# Altium footprint library PCB11.PcbLib: 40 footprints (part 2 of 3)
Each footprint in its own frame and in the unit in brackets; x right, y up, seen from the top. Pads: shape width x height; smd on the part's side, far side on the other; paste and mask are expansions set on the pad; w line width, h text height; cw(c..) or ccw(c..) is an arc to the next point about the centre after c.
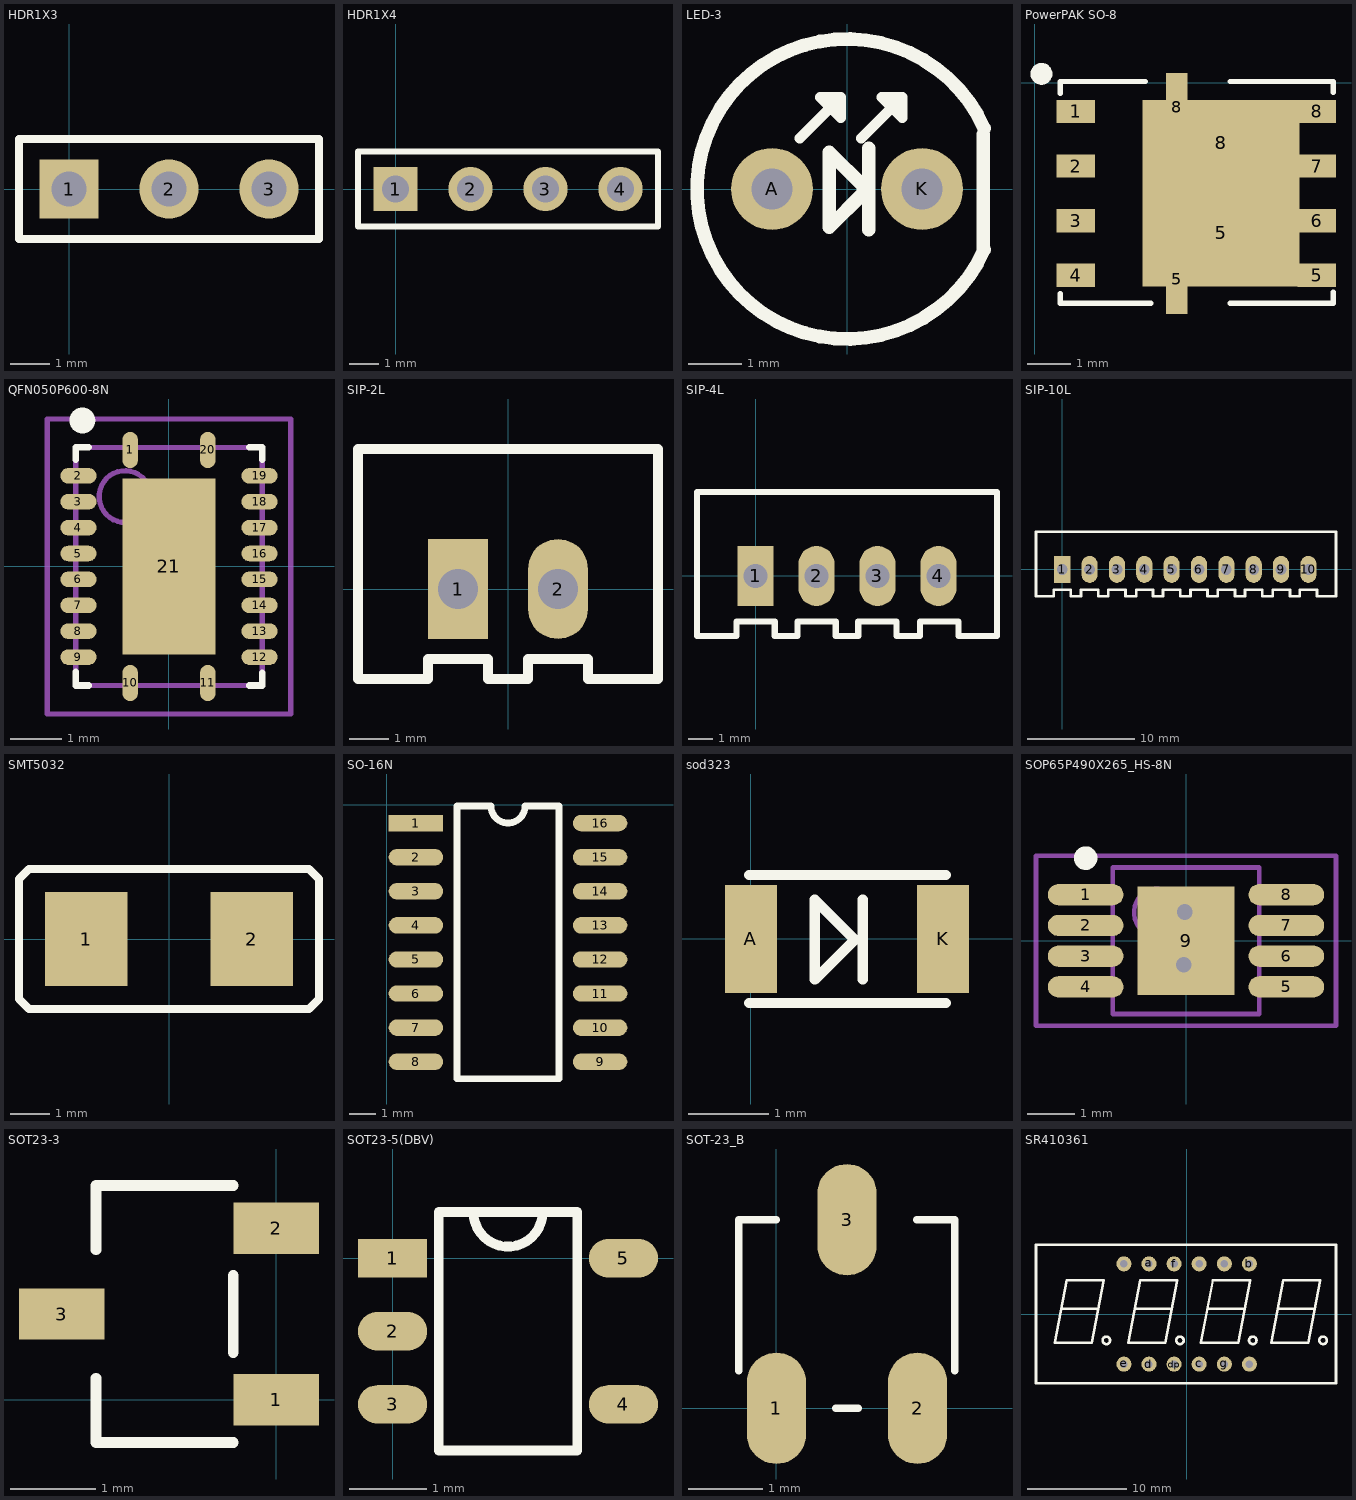
[diagram p1: the footprints below, top view; thin cyan lines are the x and y axes]

## HDR1X3 [mm] "Connector; Header; 3 Position"
height 1.1
pads (3):
  rect 1.5x1.5 hole 0.9: 1(0,0)
  round 1.5 hole 0.9: 2(2.54,0) 3(5.08,0)
Top Overlay:
  lines w0.2: -1.27,-1.27 6.35,-1.27 6.35,1.27 -1.27,1.27 -1.27,-1.27

## HDR1X4 [mm] "Connector; Header; 4 Position"
height 1.18
pads (4):
  rect 1.5x1.5 hole 0.9: 1(0,0)
  round 1.5 hole 0.9: 2(2.54,0) 3(5.08,0) 4(7.62,0)
Top Overlay:
  lines w0.2: -1.27,-1.27 -1.27,1.27 8.89,1.27 8.89,-1.27 -1.27,-1.27

## LED-3 [mil]
height 46.46
pads (2):
  round 60 hole 30: A(-55,0) K(55,0)
Top Overlay:
  lines w7.78: -34.55,37.24 -4.55,67.24 ; 10.45,37.24 40.45,67.24 ; -4.55,67.24 -4.55,52.24 -19.55,67.24 -4.55,67.24 ; 40.45,67.24 40.45,52.24 25.45,67.24 40.45,67.24
  lines w10: 16,-30 16,30 ; 100,-44.84 100,40 ; 100.52,-44.68 cw(c0,0) 100.52,44.68 ; -13,-28 -13,27 12,2 12,-3 -13,-28

## PowerPAK SO-8 [mm]
pads (12):
  rect 0.9x0.54 smd: 1(0.95,-0.67) 2(0.95,-1.94) 3(0.95,-3.21) 4(0.95,-4.48) 5(6.548,-4.48) 6(6.548,-3.21) 7(6.548,-1.94) 8(6.548,-0.67)
  rect 0.5x1.6 smd: 5(3.3,-4.575) 8(3.3,-0.575)
  rect 3.66x2.5 smd: 5(4.325,-3.495)
  rect 3.66x2 smd: 8(4.325,-1.401)
Top Overlay:
  circle w0.254: c0.152,0.203 r0.127
  lines w0.127: 0.584,-4.902 0.584,-5.125 2.692,-5.125 ; 0.584,-0.254 0.584,0.025 2.565,0.025 ; 4.534,-5.125 6.934,-5.125 6.934,-4.877 ; 4.534,0.025 6.934,0.025 6.934,-0.229

## QFN050P600-8N [mm]
height 0.8
pads (21):
  oval 0.3x0.7 smd: 1(-0.75,2.25) 10(-0.75,-2.25) 11(0.75,-2.25) 20(0.75,2.25)
  oval 0.7x0.3 smd: 2(-1.75,1.75) 3(-1.75,1.25) 4(-1.75,0.75) 5(-1.75,0.25) 6(-1.75,-0.25) 7(-1.75,-0.75) 8(-1.75,-1.25) 9(-1.75,-1.75) 12(1.75,-1.75) 13(1.75,-1.25) 14(1.75,-0.75) 15(1.75,-0.25) 16(1.75,0.25) 17(1.75,0.75) 18(1.75,1.25) 19(1.75,1.75)
  rect 1.8x3.4 smd: 21(0,0)
Top Overlay:
  circle w0.25: c-1.674,2.819 r0.125
  lines w0.127: -1.8,-2.032 -1.8,-2.3 -1.55,-2.3 ; -1.8,2.057 -1.8,2.3 -1.55,2.3 ; 1.55,-2.3 1.8,-2.3 1.8,-2.057 ; 1.55,2.3 1.8,2.3 1.8,2.057
Mechanical 13:
  circle w0.1: c-0.85,1.35 r0.5
  lines w0.1: -1.8,-2.3 1.8,-2.3 1.8,2.3 -1.8,2.3 -1.8,-2.3
Mechanical 15:
  lines w0.1: -0.5,0 0.5,0 ; 0,-0.5 0,0.5 ; -2.35,-2.85 2.35,-2.85 2.35,2.85 -2.35,2.85 -2.35,-2.85
3D body: height 0.8, standoff 0.01, extent -1.8,-2.3 1.8,2.3

## SIP-2L [mil]
height 46.46
pads (2):
  rect 60x100 hole 40: 1(-50,0)
  oval 60x100 hole 40: 2(50,0)
Top Overlay:
  lines w10: -150,-90 -150,140 150,140 150,-81 150,-90 80,-90 80,-70 20,-70 20,-90 -20,-90 -20,-70 -80,-70 -80,-90 -150,-90

## SIP-4L [mm]
height 1.18
pads (4):
  rect 1.5x2.5 hole 1: 1(0,0)
  oval 1.5x2.5 hole 1: 2(2.54,0) 3(5.08,0) 4(7.62,0)
Top Overlay:
  lines w0.254: -0.84,-2.5 -2.44,-2.5 -2.44,3.5 10.06,3.5 10.06,-2.5 8.46,-2.5 8.46,-1.9 6.86,-1.9 6.86,-2.5 5.88,-2.5 5.88,-1.9 4.28,-1.9 4.28,-2.5 3.34,-2.5 3.34,-1.9 1.74,-1.9 1.74,-2.5 0.8,-2.5 0.8,-1.9 -0.8,-1.9 -0.8,-2.5
3D body: height 7, standoff -3.4, extent -2.466,-2.519 9.934,3.581

## SIP-10L [mm]
pads (10):
  rect 1.5x2.5 hole 1: 1(0,0)
  oval 1.5x2.5 hole 1: 2(2.54,0) 3(5.08,0) 4(7.62,0) 5(10.16,0) 6(12.7,0) 7(15.24,0) 8(17.78,0) 9(20.32,0) 10(22.86,0)
Top Overlay:
  lines w0.254: -0.84,-2.5 -2.44,-2.5 -2.44,3.5 25.425,3.5 25.425,-2.5 23.66,-2.5 23.66,-1.9 22.06,-1.9 22.06,-2.5 21.12,-2.5 21.12,-1.9 ; -0.8,-2.5 -0.8,-1.9 0.8,-1.9 0.8,-2.5 1.74,-2.5 1.74,-1.9 3.34,-1.9 3.34,-2.5 4.28,-2.5 4.28,-1.9 5.88,-1.9 5.88,-2.5 6.86,-2.5 6.86,-1.9 8.46,-1.9 8.46,-2.5 ; 8.42,-1.9 8.42,-2.5 9.36,-2.5 9.36,-1.9 10.96,-1.9 10.96,-2.5 11.9,-2.5 11.9,-1.9 ; 21.16,-2.5 21.16,-1.9 19.56,-1.9 19.56,-2.5 18.58,-2.5 18.58,-1.9 16.98,-1.9 16.98,-2.5 16.04,-2.5 16.04,-1.9 14.44,-1.9 14.44,-2.5 13.5,-2.5 13.5,-1.9 ; 11.9,-1.9 13.5,-1.9 ; 11.9,-1.9 13.5,-1.9

## SMT5032 [mm]
height 1.18
pads (2):
  rect 2.1x2.4 smd: 1(-2.1,0) 2(2.1,0)
Top Overlay:
  lines w0.203: -3.81,-1.524 -3.81,1.524 -3.556,1.778 3.556,1.778 3.81,1.524 3.81,-1.524 3.556,-1.778 1.016,-1.778 -3.556,-1.778 -3.81,-1.524

## SO-16N [mil]
height 46.46
pads (16):
  rect 80x24 smd: 1(43,-27)
  oval 80x24 smd: 2(43,-77) 3(43,-127) 4(43,-177) 5(43,-227) 6(43,-277) 7(43,-327) 8(43,-377) 9(313,-377) 10(313,-327) 11(313,-277) 12(313,-227) 13(313,-177) 14(313,-127) 15(313,-77) 16(313,-27)
Top Overlay:
  lines w10: 152.76,-2 103,-2 103,-402 253,-402 253,-2 203,-2 cw(c178,-2) 153,-2
3D body: height 83.77, standoff 7, extent 61.59,-402.76 300,2.76

## sod323 [mm]
pads (2):
  rect 0.65x1.35 smd: A(0,0) K(2.4,0)
Top Overlay:
  lines w0.127: -0.025,-0.8 2.438,-0.8 ; -0.025,0.8 2.438,0.8 ; 1.397,-0.508 1.397,0.492 ; 0.797,-0.508 0.797,0.492 1.297,-0.008 0.797,-0.508

## SOP65P490X265_HS-8N [mm] "SOP, 8-Leads, Body 3.1x3.1mm (max), Pitch 0.65mm, IPC Medium Density"
height 2.65
pads (9):
  oval 1.6x0.45 smd: 1(-2.125,0.975) 2(-2.125,0.325) 3(-2.125,-0.325) 4(-2.125,-0.975) 5(2.125,-0.975) 6(2.125,-0.325) 7(2.125,0.325) 8(2.125,0.975)
  rect 2.05x2.3 smd: 9(0,0)
via -0.025,0.61 diameter 0.66 hole 0.33
via -0.051,-0.508 diameter 0.66 hole 0.33
Top Overlay:
  circle w0.25: c-2.125,1.75 r0.125
Mechanical 13:
  circle w0.1: c-0.6,0.6 r0.5
  lines w0.1: -1.55,-1.55 -1.55,1.55 1.55,1.55 1.55,-1.55 -1.55,-1.55
Mechanical 15:
  lines w0.1: -0.5,0 0.5,0 ; 0,-0.5 0,0.5 ; -3.175,-1.8 -3.175,1.8 3.175,1.8 3.175,-1.8 -3.175,-1.8
3D body: height 2.65, standoff 0.1, extent -1.55,-1.55 1.55,1.55

## SOT23-3 [mm]
pads (3):
  rect 1x0.6 smd: 1(0,0) 2(0,2) 3(-2.5,1)
Top Overlay:
  lines w0.127: -2.1,0.25 -2.1,-0.5 -0.5,-0.5 ; -2.1,1.75 -2.1,2.5 -0.5,2.5 ; -0.5,0.55 -0.5,1.45

## SOT23-5(DBV) [mm]
pads (5):
  rect 0.9x0.5 smd: 1(0,0)
  oval 0.9x0.5 smd: 2(0,-0.95) 3(0,-1.9) 4(3,-1.9) 5(3,0)
Top Overlay:
  lines w0.127: 1.05,0.6 ccw(c1.5,0.6) 1.95,0.6 ; 0.6,-2.5 0.6,0.6 2.4,0.6 2.4,-2.5 0.6,-2.5

## SOT-23_B [mm]
height 1.18
pads (3):
  oval 0.8x1.5 smd: 1(0,0) 2(1.9,0) 3(0.95,2.54)
Top Overlay:
  lines w0.1: -0.508,0.508 -0.508,2.54 0,2.54 ; 0.8,0 1.1,0 ; 1.892,2.54 2.4,2.54 2.4,0.508
3D body: height 1.2, standoff 0, extent -0.485,-0.127 2.415,2.673

## SR410361 [mil]
height 46.46
pads (12):
  round 60 hole 30: a(-150,200) b(250,200) c(50,-200) com1(-250,200) com2(50,200) com3(150,200) com4(250,-200) d(-150,-200) dp(-50,-200) e(-250,-200) f(-50,200) g(150,-200)
Top Overlay:
  circle w10: c263.4,-105 r15
  circle w10: c-26.6,-105 r15
  circle w10: c-320,-105 r15
  circle w10: c543.4,-105 r15
  lines w10: -600,-275.59 595,-275.59 ; -600,-275 -600,275 ; -600,275.59 595,275.59 ; -495.88,20 -360,20 ; -202.48,20 -66.6,20 ; 87.52,20 223.4,20 ; 367.52,20 503.4,20 ; 595,-275 595,275 ; -526.24,-115 -478.4,135 -330.55,135 -378.4,-115 -526.24,-115 ; -232.84,-115 -85,-115 -37.16,135 -185,135 -232.84,-115 ; 57.16,-115 205,-115 252.84,135 105,135 57.16,-115 ; 337.16,-115 385,135 532.84,135 485,-115 337.16,-115
3D body: height 287.4, standoff -232.28, extent -590.55,-275 590.55,276.18